# EAGLE library part MKS-1658 (library RoboJackets-Connectors)
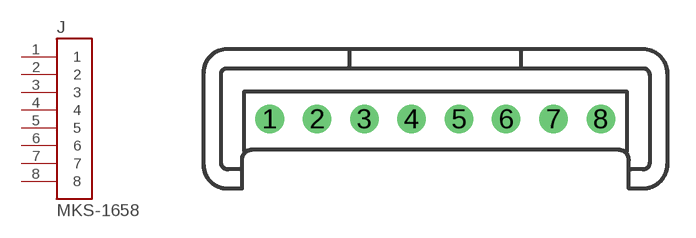
[diagram p13: symbol with the pads of MKS-1658; footprint MKS-1658]

Designator prefix J

## MKS-1658 (MPN: MKS 1658-6-0-808)  [MKS-1658]
1  1
2  2
3  3
4  4
5  5
6  6
7  7
8  8

## Footprint MKS-1658 (pad centres in mm)
Serie MKS 1850 Lötstifte In-line, Raster 2.5 mm, Stiftwannen, stehend, mit Rastlasche Source: http://www.stocko.de/de/index.php?seite=ka_rfk2_mks1850.html&rubrik=Katalog+-+RFK+2 rfk_1850.pdf
drill 1 pad 1.422: 1 -8.75,0; 2 -6.25,0; 3 -3.75,0; 4 -1.25,0; 5 1.25,0; 6 3.75,0; 7 6.25,0; 8 8.75,0